# Altium footprint library SIGMA_2D.PcbLib: 200 footprints (part 10 of 13)
Each footprint in its own frame and in the unit in brackets; x right, y up, seen from the top. Pads: shape width x height; smd on the part's side, far side on the other; paste and mask are expansions set on the pad; w line width, h text height; cw(c..) or ccw(c..) is an arc to the next point about the centre after c.
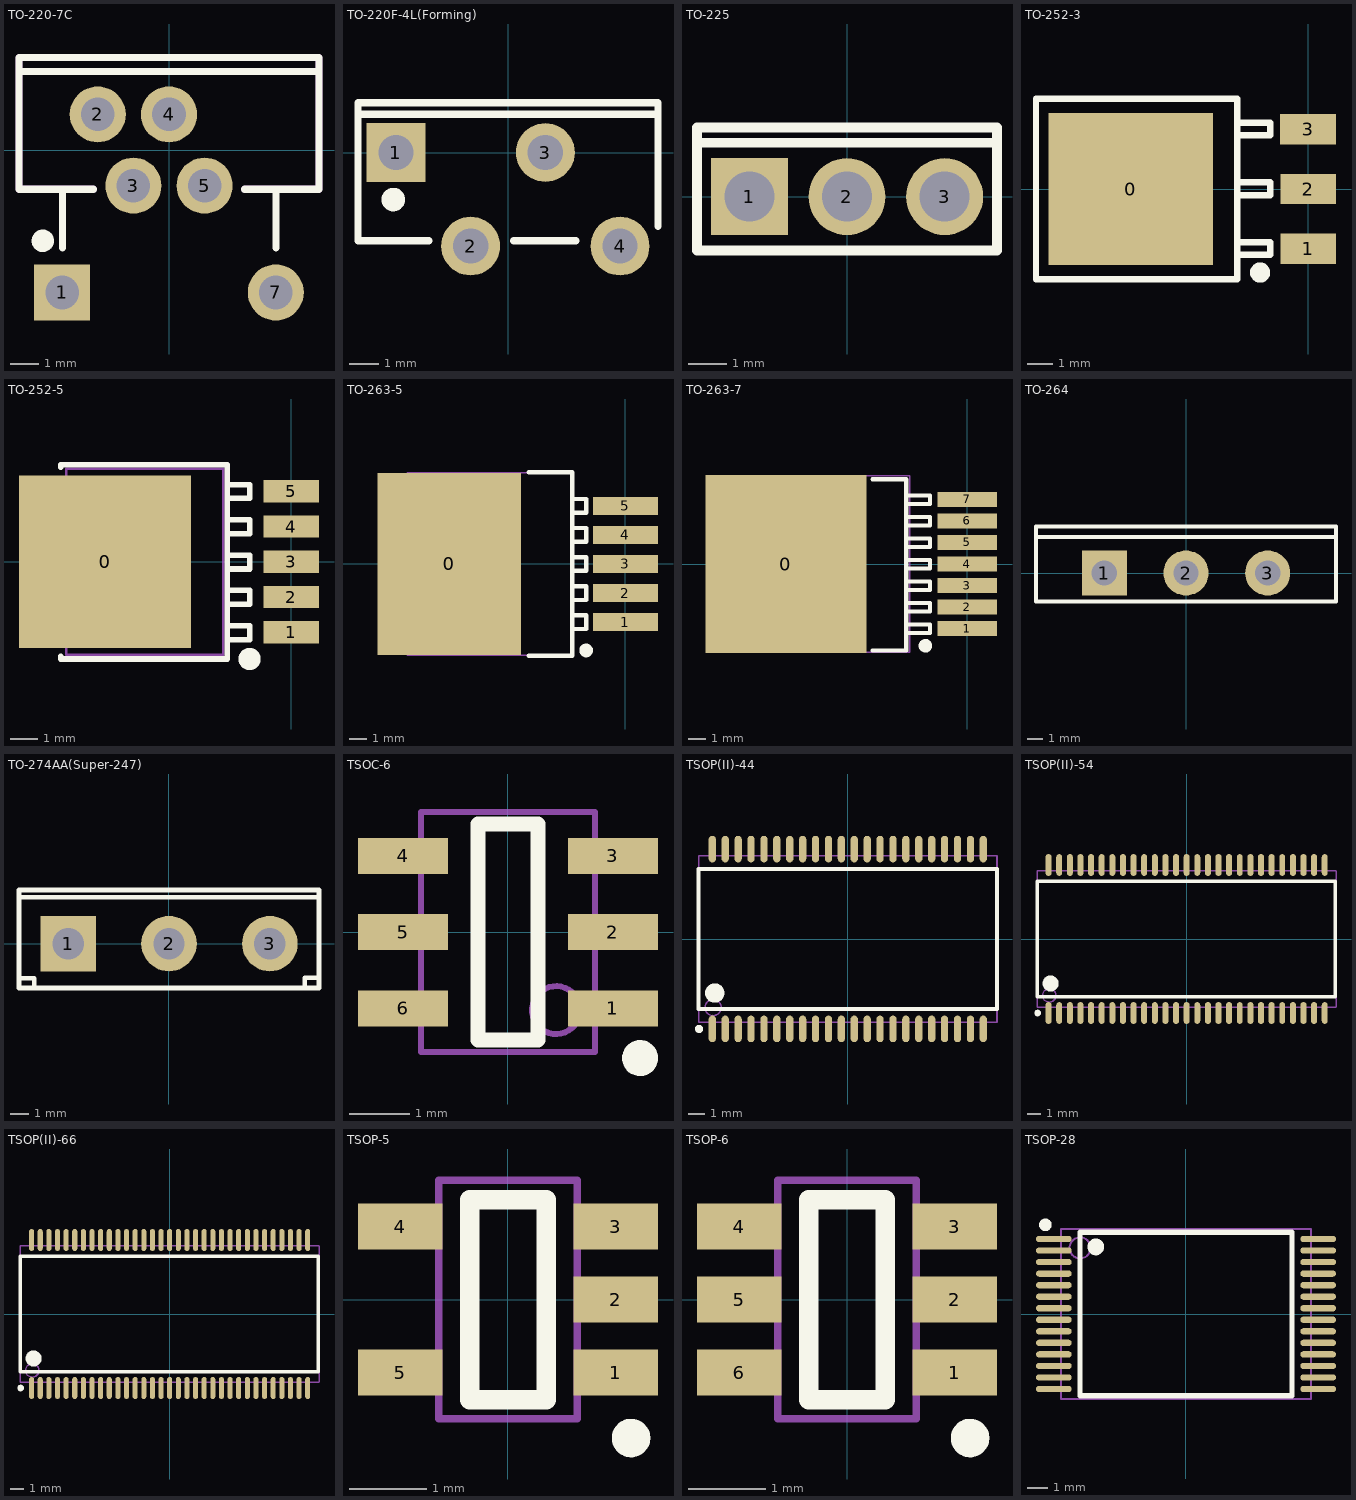
[diagram p9: the footprints below, top view; thin cyan lines are the x and y axes]

## TO-220-7C [mm]
pads (6):
  rect 2x2 hole 1.2: 1(-3.81,-5.08)
  round 2 hole 1.2: 2(-2.54,1.27) 3(-1.27,-1.27) 4(0,1.27) 5(1.27,-1.27) 7(3.81,-5.08)
Top Overlay:
  circle w0.4: c-4.5,-3.239 r0.2
  lines w0.254: -3.8,-3.5 -3.8,-1.4 ; -2.7,-1.4 -5.35,-1.4 -5.35,3.3 ; 2.7,-1.4 5.35,-1.4 5.35,3.3 ; 3.82,-3.5 3.82,-1.4 ; -5.35,2.8 -5.35,3.3 ; -5.35,2.8 5.35,2.8 ; -5.35,2.8 -5.35,3.3 ; -5.35,3.3 5.35,3.3 ; 5.35,2.8 5.35,3.3 ; 5.35,2.8 5.35,3.3
Mechanical 13:
  lines w0.254: -2.7,-1.4 -5.35,-1.4 -5.35,3.3 5.35,3.3 5.35,-1.4 2.7,-1.4

## TO-220F-4L(Forming) [mm]
pads (4):
  rect 2x2 hole 1.2: 1(-3.81,0)
  round 2 hole 1.2: 2(-1.27,-3.18) 3(1.27,0) 4(3.81,-3.18)
Top Overlay:
  circle w0.4: c-3.9,-1.6 r0.2
  lines w0.254: -5.1,1.3 5.1,1.3 ; -2.7,-3 -5.1,-3 -5.1,1.7 5.1,1.7 5.1,-2.5 ; 0.2,-3 2.3,-3

## TO-225 [mm]
pads (3):
  rect 2x2 hole 1.3: 1(-2.54,0)
  round 2 hole 1.3: 2(0,0) 3(2.54,0)
Top Overlay:
  lines w0.254: -3.9,1.4 3.9,1.4 ; -3.9,-1.4 3.9,-1.4 3.9,1.8 -3.9,1.8 -3.9,-1.4

## TO-252-3 [mm]
pads (4):
  rect 6.5x6 smd: 0(-7,0)
  rect 2.2x1.2 smd: 1(0,-2.361) 2(0,0) 3(-0.004,2.361)
Top Overlay:
  circle w0.4: c-1.9,-3.3 r0.2
  lines w0.254: -2.804,2.123 -1.504,2.123 -1.504,2.623 -2.804,2.623 ; -2.8,-2.6 -1.5,-2.6 -1.5,-2.1 -2.8,-2.1 ; -2.8,-0.239 -1.5,-0.239 -1.5,0.261 -2.8,0.261 ; -10.75,-3.573 -2.8,-3.573 -2.8,3.573 -10.75,3.573 -10.75,-3.573

## TO-252-5 [mm]
pads (6):
  rect 6.2x6.2 smd: 0(-6.7,0)
  rect 2x0.8 smd: 1(0,-2.54) 2(0,-1.27) 3(0,0) 4(0,1.27) 5(0,2.54)
Top Overlay:
  circle w0.4: c-1.5,-3.5 r0.2
  lines w0.2: -8.3,-3.4 -8.3,-3.5 -2.3,-3.5 -2.3,3.5 -8.3,3.5 -8.3,3.4 ; -2.2,-2.8 -1.5,-2.8 -1.5,-2.3 -2.2,-2.3 ; -2.2,-1.53 -1.5,-1.53 -1.5,-1.03 -2.2,-1.03 ; -2.2,-0.26 -1.5,-0.26 -1.5,0.24 -2.2,0.24 ; -2.2,1.01 -1.5,1.01 -1.5,1.51 -2.2,1.51 ; -2.2,2.28 -1.5,2.28 -1.5,2.78 -2.2,2.78
Mechanical 13:
  lines w0.1: -8.1,-3.35 -2.45,-3.35 -2.45,3.35 -8.1,3.35 -8.1,-3.35

## TO-263-5 [mm]
pads (6):
  rect 8.4x10.65 smd: 0(-10.3,0)
  rect 3.8x1.05 smd: 1(0,-3.4) 2(0,-1.7) 3(0,0) 4(0,1.7) 5(0,3.4)
Top Overlay:
  circle w0.4: c-2.3,-5.05 r0.2
  lines w0.254: -5.65,-5.35 -3.1,-5.35 -3.1,5.35 -5.65,5.35 ; -3.1,-3 -2.3,-3 -2.3,-3.8 -3,-3.8 ; -3.1,-1.3 -2.3,-1.3 -2.3,-2.1 -3,-2.1 ; -3.1,0.4 -2.3,0.4 -2.3,-0.4 -3,-0.4 ; -3.1,2.1 -2.3,2.1 -2.3,1.3 -3,1.3 ; -3.1,3.8 -2.3,3.8 -2.3,3 -3,3
Mechanical 13:
  lines w0.1: -12.75,-5.325 -12.75,5.325 -3.1,5.325 -3.1,-5.325 -12.75,-5.325

## TO-263-7 [mm]
pads (8):
  rect 9.5x10.5 smd: 0(-10.7,0)
  rect 3.5x0.9 smd: 1(0,-3.81) 2(0,-2.54) 3(0,-1.27) 4(0,0) 5(0,1.27) 6(0,2.54) 7(0,3.81)
Top Overlay:
  circle w0.4: c-2.475,-4.825 r0.2
  lines w0.254: -5.6,-5.1 -3.6,-5.1 -3.6,5 -5.6,5 ; -3.6,-4.075 -2.2,-4.075 -2.2,-3.575 -3.6,-3.575 ; -3.6,-2.805 -2.2,-2.805 -2.2,-2.305 -3.6,-2.305 ; -3.6,-1.535 -2.2,-1.535 -2.2,-1.035 -3.6,-1.035 ; -3.6,-0.265 -2.2,-0.265 -2.2,0.235 -3.6,0.235 ; -3.6,1.005 -2.2,1.005 -2.2,1.505 -3.6,1.505 ; -3.6,2.275 -2.2,2.275 -2.2,2.775 -3.6,2.775 ; -3.6,3.545 -2.2,3.545 -2.2,4.045 -3.6,4.045
Mechanical 13:
  lines w0.1: -14.4,-5.2 -3.4,-5.2 -3.4,5.2 -14.4,5.2 -14.4,-5.2

## TO-264 [mm]
pads (3):
  rect 3x3 hole 1.7: 1(-5.45,0)
  round 3 hole 1.7: 2(0,0) 3(5.45,0)
Top Overlay:
  lines w0.254: -10,2.4 10,2.4 ; -10,-1.9 10,-1.9 10,3.1 -10,3.1 -10,-1.9

## TO-274AA(Super-247) [mm]
pads (3):
  rect 3x3 hole 1.7: 1(-5.45,0)
  round 3 hole 1.7: 2(0,0) 3(5.45,0)
Top Overlay:
  lines w0.254: -8.1,2.5 8.025,2.5 ; -8.05,-1.875 -7.275,-1.875 -7.275,-2.35 ; 7.325,-2.4 7.325,-1.85 8.1,-1.85 ; -8.1,-2.4 8.1,-2.4 8.1,2.9 -8.1,2.9 -8.1,-2.4

## TSOC-6 [mm]
pads (6):
  rect 1.5x0.6 smd: 1(1.75,-1.27) 2(1.75,0) 3(1.75,1.27) 4(-1.75,1.27) 5(-1.75,0) 6(-1.75,-1.27)
Top Overlay:
  circle w0.3: c2.2,-2.1 r0.15
  lines w0.254: -0.5,-1.8 -0.5,1.8 0.5,1.8 0.5,-1.8 -0.5,-1.8
Mechanical 13:
  circle w0.1: c0.8,-1.3 r0.4
  lines w0.1: -1.45,-2 1.45,-2 1.45,2 -1.45,2 -1.45,-2

## TSOP(II)-44 [mm] "LC-TSOP(II)-44"
pads (44):
  oval 0.45x1.65 smd: 1(-8.4,-5.575) 2(-7.6,-5.575) 3(-6.8,-5.575) 4(-6,-5.575) 5(-5.2,-5.575) 6(-4.4,-5.575) 7(-3.6,-5.575) 8(-2.8,-5.575) 9(-2,-5.575) 10(-1.2,-5.575) 11(-0.4,-5.575) 12(0.4,-5.575) 13(1.2,-5.575) 14(2,-5.575) 15(2.8,-5.575) 16(3.6,-5.575) 17(4.4,-5.575) 18(5.2,-5.575) 19(6,-5.575) 20(6.8,-5.575) 21(7.6,-5.575) 22(8.4,-5.575) 23(8.4,5.575) 24(7.6,5.575) 25(6.8,5.575) 26(6,5.575) 27(5.2,5.575) 28(4.4,5.575) 29(3.6,5.575) 30(2.8,5.575) 31(2,5.575) 32(1.2,5.575) 33(0.4,5.575) 34(-0.4,5.575) 35(-1.2,5.575) 36(-2,5.575) 37(-2.8,5.575) 38(-3.6,5.575) 39(-4.4,5.575) 40(-5.2,5.575) 41(-6,5.575) 42(-6.8,5.575) 43(-7.6,5.575) 44(-8.4,5.575)
Top Overlay:
  circle w0.6: c-8.25,-3.35 r0.3
  circle w0.25: c-9.225,-5.575 r0.125
  lines w0.254: -9.25,-4.35 -9.25,4.35 9.25,4.35 9.25,-4.35 -9.25,-4.35
Mechanical 13:
  circle w0.1: c-8.35,-4.25 r0.5
  lines w0.1: -9.25,-5.15 -9.25,5.15 9.25,5.15 9.25,-5.15 -9.25,-5.15

## TSOP(II)-54 [mm]
pads (54):
  oval 0.45x1.65 smd: 1(-10.4,-5.575) 2(-9.6,-5.575) 3(-8.8,-5.575) 4(-8,-5.575) 5(-7.2,-5.575) 6(-6.4,-5.575) 7(-5.6,-5.575) 8(-4.8,-5.575) 9(-4,-5.575) 10(-3.2,-5.575) 11(-2.4,-5.575) 12(-1.6,-5.575) 13(-0.8,-5.575) 14(0,-5.575) 15(0.8,-5.575) 16(1.6,-5.575) 17(2.4,-5.575) 18(3.2,-5.575) 19(4,-5.575) 20(4.8,-5.575) 21(5.6,-5.575) 22(6.4,-5.575) 23(7.2,-5.575) 24(8,-5.575) 25(8.8,-5.575) 26(9.6,-5.575) 27(10.4,-5.575) 28(10.4,5.575) 29(9.6,5.575) 30(8.8,5.575) 31(8,5.575) 32(7.2,5.575) 33(6.4,5.575) 34(5.6,5.575) 35(4.8,5.575) 36(4,5.575) 37(3.2,5.575) 38(2.4,5.575) 39(1.6,5.575) 40(0.8,5.575) 41(0,5.575) 42(-0.8,5.575) 43(-1.6,5.575) 44(-2.4,5.575) 45(-3.2,5.575) 46(-4,5.575) 47(-4.8,5.575) 48(-5.6,5.575) 49(-6.4,5.575) 50(-7.2,5.575) 51(-8,5.575) 52(-8.8,5.575) 53(-9.6,5.575) 54(-10.4,5.575)
Top Overlay:
  circle w0.6: c-10.25,-3.35 r0.3
  circle w0.25: c-11.225,-5.575 r0.125
  lines w0.254: -11.25,-4.35 -11.25,4.35 11.2,4.35 11.2,-4.35 -11.25,-4.35
Mechanical 13:
  circle w0.1: c-10.35,-4.25 r0.5
  lines w0.1: -11.25,-5.15 -11.25,5.15 11.25,5.15 11.25,-5.15 -11.25,-5.15

## TSOP(II)-66 [mm]
pads (66):
  oval 0.38x1.65 smd mask+0.051: 1(-10.4,-5.575) 2(-9.75,-5.575) 3(-9.1,-5.575) 4(-8.45,-5.575) 5(-7.8,-5.575) 6(-7.15,-5.575) 7(-6.5,-5.575) 8(-5.85,-5.575) 9(-5.2,-5.575) 10(-4.55,-5.575) 11(-3.9,-5.575) 12(-3.25,-5.575) 13(-2.6,-5.575) 14(-1.95,-5.575) 15(-1.3,-5.575) 16(-0.65,-5.575) 17(0,-5.575) 18(0.65,-5.575) 19(1.3,-5.575) 20(1.95,-5.575) 21(2.6,-5.575) 22(3.25,-5.575) 23(3.9,-5.575) 24(4.55,-5.575) 25(5.2,-5.575) 26(5.85,-5.575) 27(6.5,-5.575) 28(7.15,-5.575) 29(7.8,-5.575) 30(8.45,-5.575) 31(9.1,-5.575) 32(9.75,-5.575) 33(10.4,-5.575) 34(10.4,5.575) 35(9.75,5.575) 36(9.1,5.575) 37(8.45,5.575) 38(7.8,5.575) 39(7.15,5.575) 40(6.5,5.575) 41(5.85,5.575) 42(5.2,5.575) 43(4.55,5.575) 44(3.9,5.575) 45(3.25,5.575) 46(2.6,5.575) 47(1.95,5.575) 48(1.3,5.575) 49(0.65,5.575) 50(0,5.575) 51(-0.65,5.575) 52(-1.3,5.575) 53(-1.95,5.575) 54(-2.6,5.575) 55(-3.25,5.575) 56(-3.9,5.575) 57(-4.55,5.575) 58(-5.2,5.575) 59(-5.85,5.575) 60(-6.5,5.575) 61(-7.15,5.575) 62(-7.8,5.575) 63(-8.45,5.575) 64(-9.1,5.575) 65(-9.75,5.575) 66(-10.4,5.575)
Top Overlay:
  circle w0.6: c-10.25,-3.35 r0.3
  circle w0.25: c-11.225,-5.575 r0.125
  lines w0.254: -11.25,-4.35 -11.25,4.35 11.2,4.35 11.2,-4.35 -11.25,-4.35
Mechanical 13:
  circle w0.1: c-10.35,-4.25 r0.5
  lines w0.1: -11.25,-5.15 -11.25,5.15 11.25,5.15 11.25,-5.15 -11.25,-5.15

## TSOP-5 [mm]
pads (5):
  rect 1.1x0.6 smd mask+0.102: 1(1.4,-0.95) 2(1.4,0) 3(1.4,0.95) 4(-1.4,0.95) 5(-1.4,-0.95)
Top Overlay:
  circle w0.25: c1.6,-1.8 r0.125
  lines w0.254: -0.5,-1.3 -0.5,1.3 0.5,1.3 0.5,-1.3 -0.5,-1.3
Mechanical 13:
  lines w0.1: -0.9,-1.55 -0.9,1.55 0.9,1.55 0.9,-1.55 -0.9,-1.55

## TSOP-6 [mm]
pads (6):
  rect 1.1x0.6 smd: 1(1.4,-0.95) 2(1.4,0) 3(1.4,0.95) 4(-1.4,0.95) 5(-1.4,0) 6(-1.4,-0.95)
Top Overlay:
  circle w0.25: c1.6,-1.8 r0.125
  lines w0.254: -0.5,-1.3 -0.5,1.3 0.5,1.3 0.5,-1.3 -0.5,-1.3
Mechanical 13:
  lines w0.1: -0.9,-1.55 -0.9,1.55 0.9,1.55 0.9,-1.55 -0.9,-1.55

## TSOP-28 [mm]
pads (28):
  oval 1.7x0.3 smd mask+0.051: 1(-6.3,3.575) 2(-6.3,3.025) 3(-6.3,2.475) 4(-6.3,1.925) 5(-6.3,1.375) 6(-6.3,0.825) 7(-6.3,0.275) 8(-6.3,-0.275) 9(-6.3,-0.825) 10(-6.3,-1.375) 11(-6.3,-1.925) 12(-6.3,-2.475) 13(-6.3,-3.025) 14(-6.3,-3.575) 15(6.3,-3.575) 16(6.3,-3.025) 17(6.3,-2.475) 18(6.3,-1.925) 19(6.3,-1.375) 20(6.3,-0.825) 21(6.3,-0.275) 22(6.3,0.275) 23(6.3,0.825) 24(6.3,1.375) 25(6.3,1.925) 26(6.3,2.475) 27(6.3,3.025) 28(6.3,3.575)
Top Overlay:
  circle w0.3: c-6.7,4.25 r0.15
  circle w0.4: c-4.3,3.2 r0.2
  lines w0.254: -5.05,-3.9 5.05,-3.9 5.05,3.9 -5.05,3.9 -5.05,-3.9
Mechanical 13:
  circle w0.1: c-5.05,3.15 r0.5
  lines w0.1: -5.95,-4.05 5.95,-4.05 5.95,4.05 -5.95,4.05 -5.95,-4.05